# Altium schematic symbol library TCA9535.SchLib: 1 symbol
Pins are listed as number, name and electrical type; pins without a type are passive.

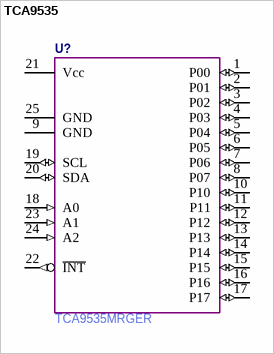
[diagram p0: symbol TCA9535]

## TCA9535
designator U?  Manufacture Part Number: TCA9535MRGER  (hidden comment: *)
pins: 1 P00 (io), 2 P01 (io), 3 P02 (io), 4 P03 (io), 5 P04 (io), 6 P05 (io), 7 P06 (io), 8 P07 (io), 9 GND (power), 10 P10 (io), 11 P11 (io), 12 P12 (io), 13 P13 (io), 14 P14 (io), 15 P15 (io), 16 P16 (io), 17 P17 (io), 18 A0 (in), 19 SCL (io), 20 SDA (io), 21 Vcc (power), 22 ~{INT} (out), 23 A1 (in), 24 A2 (in), 25 GND (power)